# Altium footprint library halo-electronics.PCBLIB: 1 footprints
Each footprint in its own frame and in the unit in brackets; x right, y up, seen from the top. Pads: shape width x height; smd on the part's side, far side on the other; paste and mask are expansions set on the pad; w line width, h text height; cw(c..) or ccw(c..) is an arc to the next point about the centre after c.
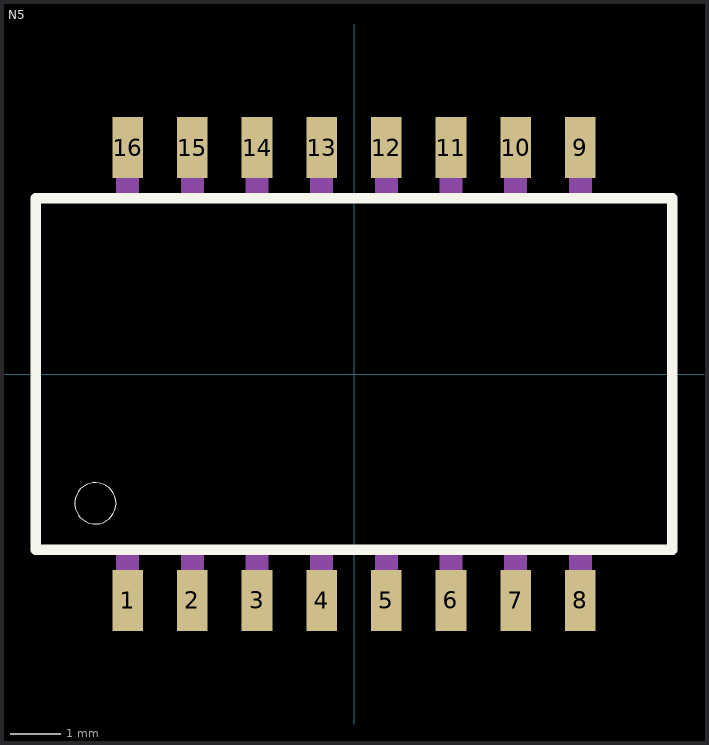
[diagram p0: the footprint, top view; thin cyan lines are the x and y axes]

## N5 [mil]
pads (16):
  rect 23.62x47.24 smd: 1(-175,-175) 2(-125,-175) 3(-75,-175) 4(-25,-175) 5(25,-175) 6(75,-175) 7(125,-175) 8(175,-175) 9(175,175) 10(125,175) 11(75,175) 12(25,175) 13(-25,175) 14(-75,175) 15(-125,175) 16(-175,175)
Top Overlay:
  circle w0: c-200,-100 r16
  lines w8: -246.06,-135.83 -246.06,135.83 246.06,135.83 246.06,-135.83 -246.06,-135.83
Mechanical 16:
  region: -166.14,-133.86 -183.86,-133.86 -183.86,-187.01 -166.14,-187.01
  region: -116.14,-133.86 -133.86,-133.86 -133.86,-187.01 -116.14,-187.01
  region: -66.14,-133.86 -83.86,-133.86 -83.86,-187.01 -66.14,-187.01
  region: -16.14,-133.86 -33.86,-133.86 -33.86,-187.01 -16.14,-187.01
  region: 33.86,-133.86 16.14,-133.86 16.14,-187.01 33.86,-187.01
  region: 83.86,-133.86 66.14,-133.86 66.14,-187.01 83.86,-187.01
  region: 133.86,-133.86 116.14,-133.86 116.14,-187.01 133.86,-187.01
  region: 183.86,-133.86 166.14,-133.86 166.14,-187.01 183.86,-187.01
  rectangle: 166.14,133.86 183.86,187.01
  rectangle: 116.14,133.86 133.86,187.01
  rectangle: 66.14,133.86 83.86,187.01
  rectangle: 16.14,133.86 33.86,187.01
  rectangle: -33.86,133.86 -16.14,187.01
  rectangle: -83.86,133.86 -66.14,187.01
  rectangle: -133.86,133.86 -116.14,187.01
  rectangle: -183.86,133.86 -166.14,187.01